# EAGLE library part LTC1540 (library zkseagle)
Dual Low Power, High Speed JFET Operational Amplifiers Source: http://www.analog.com/UploadedFiles/Data_Sheets/AD8682_8684.pdf
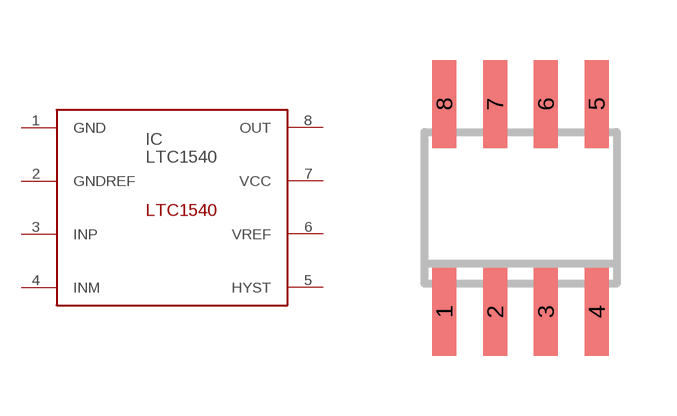
[diagram p0: symbol with the pads of SO08; footprint SO08]

Designator prefix IC

## LTC1540R  [SO08]
1  GND  pwr
2  GNDREF
3  INP  in
4  INM
5  HYST
6  VREF
7  VCC  sup
8  OUT  out

## Footprint SO08 (pad centres in mm)
Small Outline Package 8 NS Package M08A
smd 0.6 x 2.2: 1 -1.905,-2.6; 2 -0.635,-2.6; 3 0.635,-2.6; 4 1.905,-2.6; 5 1.905,2.6; 6 0.635,2.6; 7 -0.635,2.6; 8 -1.905,2.6